# EAGLE library part MMZ09332B (library CougsInSpace-RF)
MMZ09332B - PA 130-1000MHz
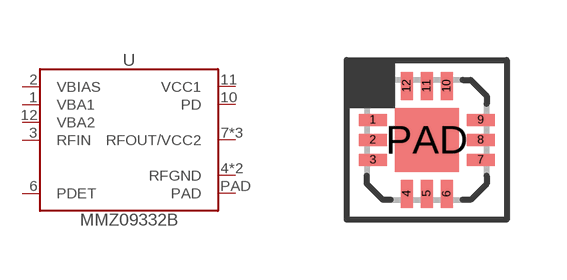
[diagram p5: symbol with the pads of QFN-12-3030; footprint QFN-12-3030]

Designator prefix U

## MMZ09332B (SKU: 65-0011; VALUE: MMZ09332B)  [QFN-12-3030]
1  VBA1  in
2  VBIAS  pwr
3  RFIN  in
4  RFGND  pwr
5  RFGND  pwr
6  PDET  out
7  RFOUT/VCC2  out
8  RFOUT/VCC2  out
9  RFOUT/VCC2  out
10  PD  in
11  VCC1  pwr
12  VBA2  in
PAD  PAD  pas

## Footprint QFN-12-3030 (pad centres in mm)
Quad Flat No-Leads (QFN) - 12 pins - 3.0 x 3.0 mm
smd 0.7 x 0.3: 1 -1.35,0.5; 2 -1.35,0; 3 -1.35,-0.5; 7 1.35,-0.5; 8 1.35,0; 9 1.35,0.5
smd 0.3 x 0.7: 4 -0.5,-1.35; 5 0,-1.35; 6 0.5,-1.35; 10 0.5,1.35; 11 0,1.35; 12 -0.5,1.35
smd 1.6 x 1.6: PAD 0,0